# EAGLE library part MSP430 (library word_clock)
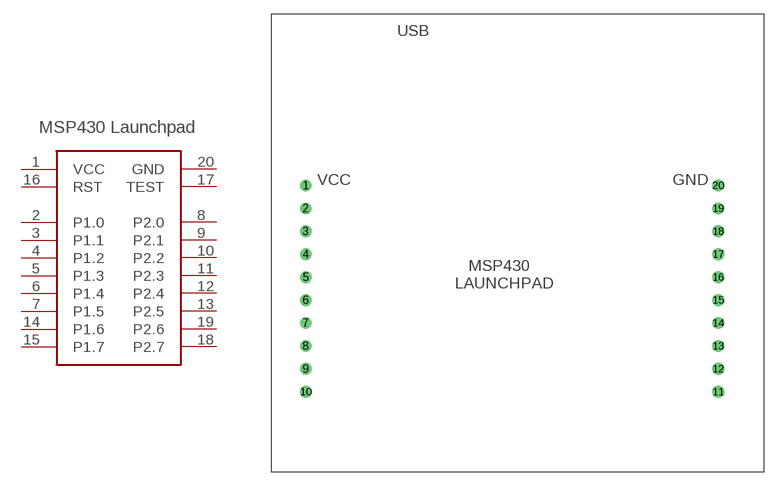
[diagram p2: symbol with the pads of MSP430; footprint MSP430]

Designator prefix -

## MSP430  [MSP430]
1  VCC
2  P1.0
3  P1.1
4  P1.2
5  P1.3
6  P1.4
7  P1.5
8  P2.0
9  P2.1
10  P2.2
11  P2.3
12  P2.4
13  P2.5
14  P1.6
15  P1.7
16  RST
17  TEST
18  P2.7
19  P2.6
20  GND

## Footprint MSP430 (pad centres in mm)
drill 0.8: 1 -22.86,22.86; 2 -22.86,20.32; 3 -22.86,17.78; 4 -22.86,15.24; 5 -22.86,12.7; 6 -22.86,10.16; 7 -22.86,7.62; 8 -22.86,5.08; 9 -22.86,2.54; 10 -22.86,0; 11 22.86,0; 12 22.86,2.54; 13 22.86,5.08; 14 22.86,7.62; 15 22.86,10.16; 16 22.86,12.7; 17 22.86,15.24; 18 22.86,17.78; 19 22.86,20.32; 20 22.86,22.86